# EAGLE library part BM1Q011 (library my_ic)
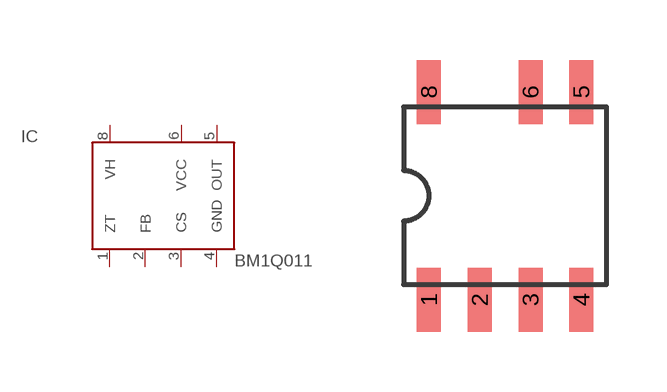
[diagram p19: symbol with the pads of SOP8-J7S; footprint SOP8-J7S]

Designator prefix IC

## BM1Q011  [SOP8-J7S]
1  ZT  in
2  FB  in
3  CS  in
4  GND  pwr
5  OUT  out
6  VCC  pwr
8  VH  pwr

## Footprint SOP8-J7S (pad centres in mm)
SOP8 Source: http://www.rohm.com/products/databook/motor/pdf/bd623x_series-e.pdf
smd 0.6 x 1.6: 1 -1.905,-2.6; 2 -0.635,-2.6; 3 0.635,-2.6; 4 1.905,-2.6; 5 1.905,2.6; 6 0.635,2.6; 8 -1.905,2.6